# Altium footprint library Custom.PcbLib: 446 footprints (part 10 of 28)
Each footprint in its own frame and in the unit in brackets; x right, y up, seen from the top. Pads: shape width x height; smd on the part's side, far side on the other; paste and mask are expansions set on the pad; w line width, h text height; cw(c..) or ccw(c..) is an arc to the next point about the centre after c.
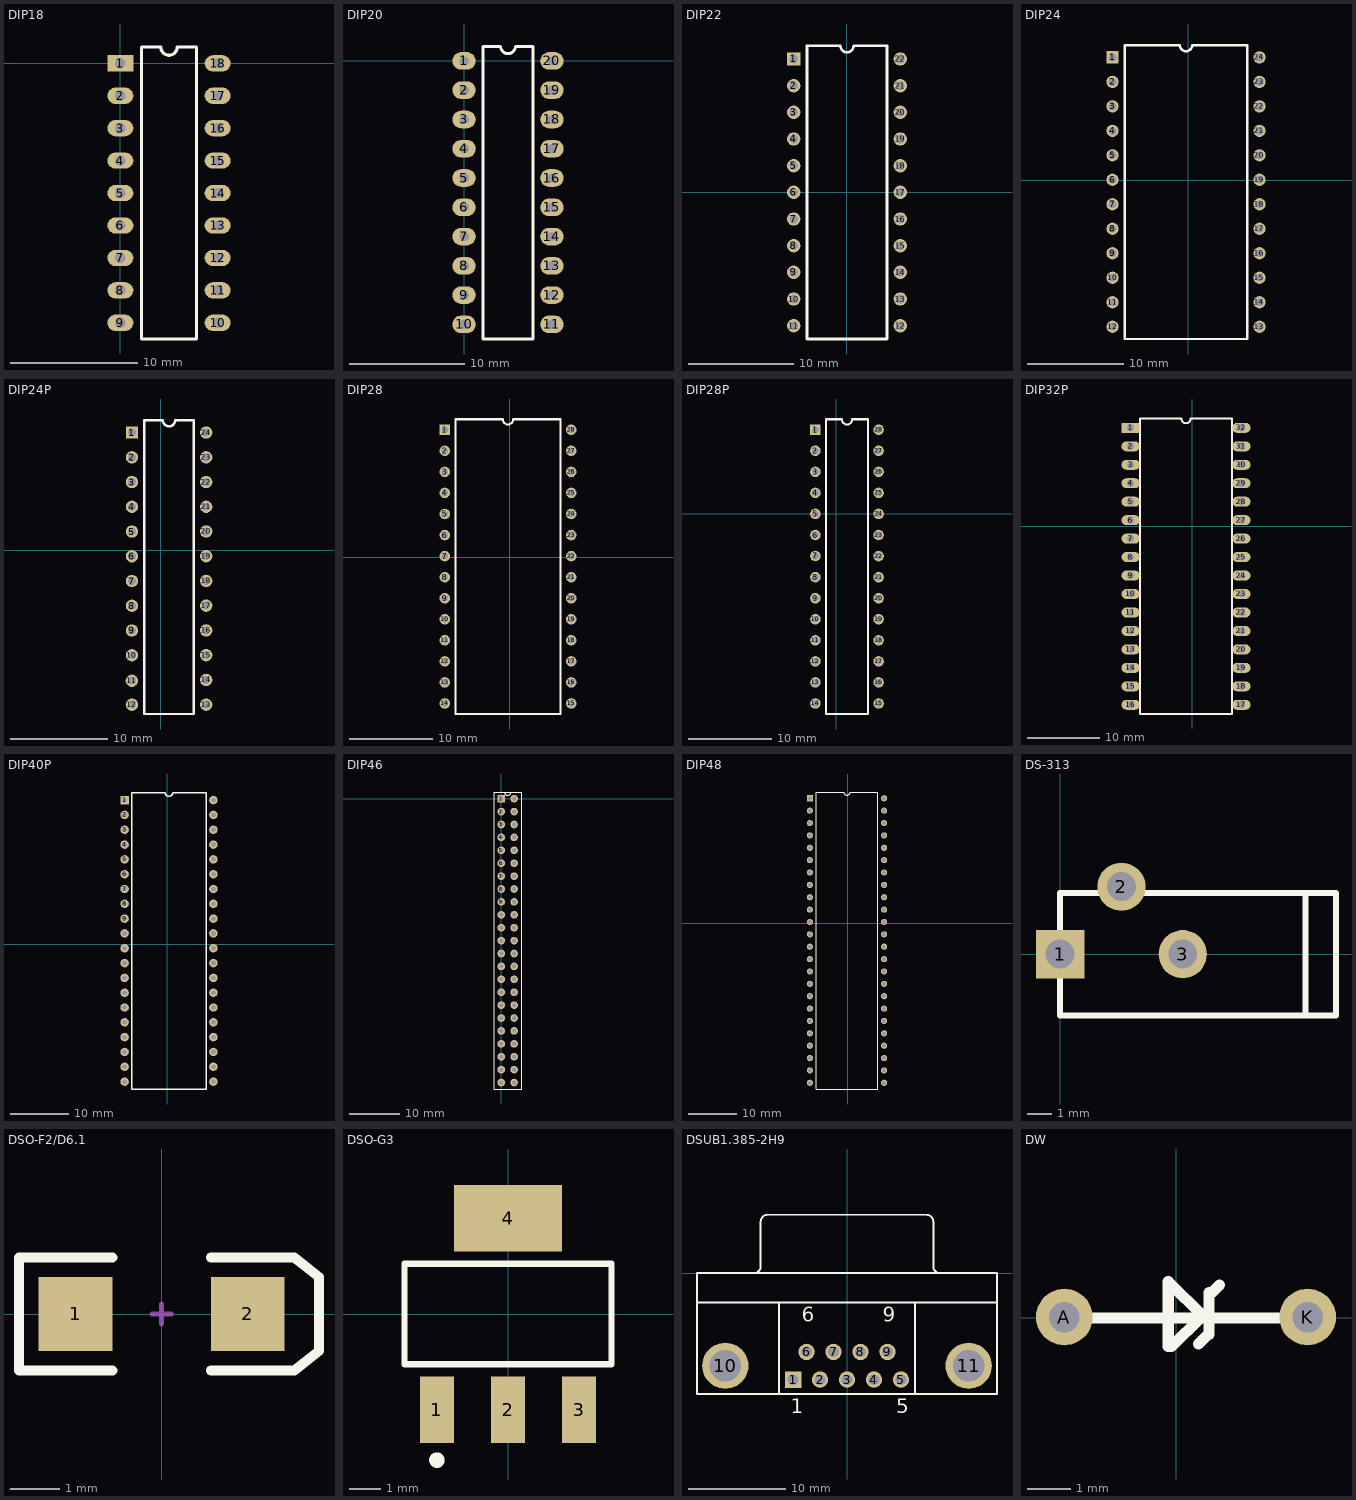
[diagram p9: the footprints below, top view; thin cyan lines are the x and y axes]

## DIP18 [mil]
pads (18):
  rect 80x50 hole 32: 1(0,0)
  oval 80x50 hole 32: 2(0,-100) 3(0,-200) 4(0,-300) 5(0,-400) 6(0,-500) 7(0,-600) 8(0,-700) 9(0,-800) 10(300,-800) 11(300,-700) 12(300,-600) 13(300,-500) 14(300,-400) 15(300,-300) 16(300,-200) 17(300,-100) 18(300,0)
Top Overlay:
  lines w10: 65,-850 65,50 125,50 ccw(c150,50) 175,50 235,50 235,-850 65,-850

## DIP20 [mil]
pads (20):
  oval 80x60 hole 32: 1(0,0) 2(0,-100) 3(0,-200) 4(0,-300) 5(0,-400) 6(0,-500) 7(0,-600) 8(0,-700) 9(0,-800) 10(0,-900) 11(300,-900) 12(300,-800) 13(300,-700) 14(300,-600) 15(300,-500) 16(300,-400) 17(300,-300) 18(300,-200) 19(300,-100) 20(300,0)
Top Overlay:
  lines w10: 65,-950 235,-950 235,50 175,50 cw(c150,50) 125,50 65,50 65,-950

## DIP22 [mil]
pads (22):
  rect 50x50 hole 32: 1(-199.29,499.29)
  round 50 hole 32: 2(-199.29,399.29) 3(-199.29,299.29) 4(-199.29,199.29) 5(-199.29,99.29) 6(-199.29,-0.71) 7(-199.29,-100.71) 8(-199.29,-200.71) 9(-199.29,-300.71) 10(-199.29,-400.71) 11(-199.29,-500.71) 12(200.71,-500.71) 13(200.71,-400.71) 14(200.71,-300.71) 15(200.71,-200.71) 16(200.71,-100.71) 17(200.71,-0.71) 18(200.71,99.29) 19(200.71,199.29) 20(200.71,299.29) 21(200.71,399.29) 22(200.71,499.29)
Top Overlay:
  lines w10: -149.29,-550.71 150.71,-550.71 150.71,549.29 25.71,549.29 cw(c0.71,549.29) -24.29,549.29 -149.29,549.29 -149.29,-550.71

## DIP24 [mil]
pads (24):
  rect 50x50 hole 32: 1(-308.19,501.89)
  round 50 hole 32: 2(-308.19,401.89) 3(-308.19,301.89) 4(-308.19,201.89) 5(-308.19,101.89) 6(-308.19,1.89) 7(-308.19,-98.11) 8(-308.19,-198.11) 9(-308.19,-298.11) 10(-308.19,-398.11) 11(-308.19,-498.11) 12(-308.19,-598.11) 13(291.81,-598.11) 14(291.81,-498.11) 15(291.81,-398.11) 16(291.81,-298.11) 17(291.81,-198.11) 18(291.81,-98.11) 19(291.81,1.89) 20(291.81,101.89) 21(291.81,201.89) 22(291.81,301.89) 23(291.81,401.89) 24(291.81,501.89)
Top Overlay:
  lines w10: -258.19,-648.11 241.81,-648.11 241.81,551.89 16.81,551.89 cw(c-8.19,551.89) -33.19,551.89 -258.19,551.89 -258.19,-648.11

## DIP24P [mil]
pads (24):
  rect 50x50 hole 32: 1(-116.38,475.28)
  round 50 hole 32: 2(-116.38,375.28) 3(-116.38,275.28) 4(-116.38,175.28) 5(-116.38,75.28) 6(-116.38,-24.72) 7(-116.38,-124.72) 8(-116.38,-224.72) 9(-116.38,-324.72) 10(-116.38,-424.72) 11(-116.93,-527.95) 12(-116.54,-624.41) 13(183.46,-624.41) 14(183.46,-524.41) 15(183.46,-424.41) 16(183.46,-324.41) 17(183.46,-224.41) 18(183.46,-124.41) 19(183.46,-24.41) 20(183.46,75.59) 21(183.62,175.28) 22(183.62,275.28) 23(183.62,375.28) 24(183.62,475.28)
Top Overlay:
  lines w10: -66.93,-662.2 133.07,-662.2 ; -66.93,-659.84 -66.38,525.28 8.62,525.28 ccw(c33.62,525.28) 58.62,525.28 133.62,525.28 133.86,-659.84

## DIP28 [mm]
pads (28):
  rect 1.27x1.27 hole 0.813: 1(-7.85,15.36)
  round 1.27 hole 0.813: 2(-7.85,12.82) 3(-7.85,10.28) 4(-7.85,7.74) 5(-7.85,5.2) 6(-7.85,2.66) 7(-7.85,0.12) 8(-7.85,-2.42) 9(-7.85,-4.96) 10(-7.85,-7.5) 11(-7.85,-10.04) 12(-7.85,-12.58) 13(-7.85,-15.12) 14(-7.85,-17.66) 15(7.39,-17.66) 16(7.39,-15.12) 17(7.39,-12.58) 18(7.39,-10.04) 19(7.39,-7.5) 20(7.39,-4.96) 21(7.39,-2.42) 22(7.39,0.12) 23(7.39,2.66) 24(7.39,5.2) 25(7.39,7.74) 26(7.39,10.28) 27(7.39,12.82) 28(7.39,15.36)
Top Overlay:
  lines w0.254: -6.58,-18.93 -6.58,16.63 -0.865,16.63 ccw(c-0.23,16.63) 0.405,16.63 6.12,16.63 6.12,-18.93 -6.58,-18.93

## DIP28P [mil]
pads (28):
  rect 50x50 hole 32: 1(-99.43,399.13)
  round 50 hole 32: 2(-99.43,299.13) 3(-99.43,199.13) 4(-99.43,99.13) 5(-99.43,-0.87) 6(-99.43,-100.87) 7(-99.5,-200.5) 8(-99.5,-301) 9(-99.43,-401.37) 10(-99.43,-501.37) 11(-99.43,-601.37) 12(-99.43,-701.37) 13(-99.43,-801.37) 14(-99.43,-901.37) 15(200.57,-901.37) 16(200.57,-801.37) 17(200.57,-701.37) 18(200.57,-601.37) 19(200.57,-501.37) 20(200.57,-401.37) 21(200.57,-301.37) 22(200.57,-200.87) 23(200.57,-100.87) 24(200.57,-0.87) 25(200.57,99.13) 26(200.57,199.13) 27(200.57,299.13) 28(200.57,399.13)
Top Overlay:
  lines w10: -49.43,-251.37 -49.43,-951.37 150.57,-951.37 150.57,-251.37 ; -49.43,-250.87 -49.43,449.13 25.57,449.13 ccw(c50.57,449.13) 75.57,449.13 150.57,449.13 150.57,-250.87

## DIP32P [mm]
pads (32):
  rect 2.5x1.38 hole 1: 1(-8.458,13.538)
  oval 2.5x1.38 hole 1: 2(-8.458,10.998) 3(-8.458,8.458) 4(-8.458,5.918) 5(-8.458,3.378) 6(-8.458,0.838) 7(-8.458,-1.702) 8(-8.458,-4.242) 9(-8.458,-6.782) 10(-8.458,-9.322) 11(-8.458,-11.862) 12(-8.458,-14.402) 13(-8.458,-16.942) 14(-8.458,-19.482) 15(-8.458,-22.022) 16(-8.458,-24.562) 17(6.782,-24.562) 18(6.782,-22.022) 19(6.782,-19.482) 20(6.782,-16.942) 21(6.782,-14.402) 22(6.782,-11.862) 23(6.782,-9.322) 24(6.782,-6.782) 25(6.782,-4.242) 26(6.782,-1.702) 27(6.782,0.838) 28(6.782,3.378) 29(6.782,5.918) 30(6.782,8.458) 31(6.782,10.998) 32(6.782,13.538)
Top Overlay:
  lines w0.254: -7.188,-25.832 -7.188,14.808 -1.473,14.808 ccw(c-0.838,14.808) -0.203,14.808 5.512,14.808 5.512,-25.832 -7.188,-25.832

## DIP40P [mm]
pads (40):
  rect 1.45x1.45 hole 0.8: 1(-7.295,24.73)
  round 1.45 hole 0.8: 2(-7.295,22.19) 3(-7.295,19.65) 4(-7.295,17.11) 5(-7.295,14.57) 6(-7.295,12.03) 7(-7.295,9.49) 8(-7.295,6.95) 9(-7.295,4.41) 10(-7.295,1.87) 11(-7.295,-0.67) 12(-7.295,-3.21) 13(-7.295,-5.75) 14(-7.295,-8.29) 15(-7.295,-10.83) 16(-7.295,-13.37) 17(-7.295,-15.91) 18(-7.295,-18.45) 19(-7.295,-20.99) 20(-7.295,-23.53) 21(7.945,-23.53) 22(7.945,-20.99) 23(7.945,-18.45) 24(7.945,-15.91) 25(7.945,-13.37) 26(7.945,-10.83) 27(7.945,-8.29) 28(7.945,-5.75) 29(7.945,-3.21) 30(7.945,-0.67) 31(7.945,1.87) 32(7.945,4.41) 33(7.945,6.95) 34(7.945,9.49) 35(7.945,12.03) 36(7.945,14.57) 37(7.945,17.11) 38(7.945,19.65) 39(7.945,22.19) 40(7.945,24.73)
Top Overlay:
  lines w0.254: -6.025,-24.8 -6.025,26 -0.31,26 ccw(c0.325,26) 0.96,26 6.675,26 6.675,-24.8 -6.025,-24.8

## DIP46 [mm]
pads (46):
  rect 1.5x1.5 hole 0.9: 1(0,0)
  round 1.5 hole 0.9: 2(0,-2.54) 3(0,-5.08) 4(0,-7.62) 5(0,-10.16) 6(0,-12.7) 7(0,-15.24) 8(0,-17.78) 9(0,-20.32) 10(0,-22.86) 11(0,-25.4) 12(0,-27.94) 13(0,-30.48) 14(0,-33.02) 15(0,-35.56) 16(0,-38.1) 17(0,-40.64) 18(0,-43.18) 19(0,-45.72) 20(0,-48.26) 21(0,-50.8) 22(0,-53.34) 23(0,-55.88) 24(2.54,-55.88) 25(2.54,-53.34) 26(2.54,-50.8) 27(2.54,-48.26) 28(2.54,-45.72) 29(2.54,-43.18) 30(2.54,-40.64) 31(2.54,-38.1) 32(2.54,-35.56) 33(2.54,-33.02) 34(2.54,-30.48) 35(2.54,-27.94) 36(2.54,-25.4) 37(2.54,-22.86) 38(2.54,-20.32) 39(2.54,-17.78) 40(2.54,-15.24) 41(2.54,-12.7) 42(2.54,-10.16) 43(2.54,-7.62) 44(2.54,-5.08) 45(2.54,-2.54) 46(2.54,0)
Top Overlay:
  lines w0.2: -1.397,-57.15 4.064,-57.15 4.064,-1.209 4.064,1.27 1.585,1.27 0.635,1.27 ccw(c1.27,1.27) 1.905,1.27 0.955,1.27 -1.397,1.27 -1.397,-57.15

## DIP48 [mm]
pads (48):
  rect 1.27x1.27 hole 0.813: 1(-7.81,25.62)
  round 1.27 hole 0.813: 2(-7.81,23.08) 3(-7.81,20.54) 4(-7.81,18) 5(-7.81,15.46) 6(-7.81,12.92) 7(-7.81,10.38) 8(-7.81,7.84) 9(-7.81,5.3) 10(-7.81,2.76) 11(-7.81,0.22) 12(-7.81,-2.32) 13(-7.81,-4.86) 14(-7.81,-7.4) 15(-7.81,-9.94) 16(-7.81,-12.48) 17(-7.81,-15.02) 18(-7.81,-17.56) 19(-7.81,-20.1) 20(-7.81,-22.64) 21(-7.81,-25.18) 22(-7.81,-27.72) 23(-7.81,-30.26) 24(-7.81,-32.8) 25(7.43,-32.8) 26(7.43,-30.26) 27(7.43,-27.72) 28(7.43,-25.18) 29(7.43,-22.64) 30(7.43,-20.1) 31(7.43,-17.56) 32(7.43,-15.02) 33(7.43,-12.48) 34(7.43,-9.94) 35(7.43,-7.4) 36(7.43,-4.86) 37(7.43,-2.32) 38(7.43,0.22) 39(7.43,2.76) 40(7.43,5.3) 41(7.43,7.84) 42(7.43,10.38) 43(7.43,12.92) 44(7.43,15.46) 45(7.43,18) 46(7.43,20.54) 47(7.43,23.08) 48(7.43,25.62)
Top Overlay:
  lines w0.254: -6.54,-34.07 6.16,-34.07 6.16,26.89 0.445,26.89 cw(c-0.19,26.89) -0.825,26.89 -6.54,26.89 -6.54,-34.07

## DS-313 [mm]
pads (3):
  rect 2x2 hole 1.2: 1(0,0)
  round 2 hole 1.2: 2(2.54,2.794) 3(5.08,0)
Top Overlay:
  lines w0.254: 10.16,-2.54 10.16,2.54 ; 0,-2.54 0,2.54 11.43,2.54 11.43,-2.54 0,-2.54

## DSO-F2/D6.1 [mm] "SMT LED; 2 Flat Leads"
pads (2):
  rect 1.5x1.5 smd: 1(-1.75,0) 2(1.75,0)
Top Overlay:
  lines w0.2: -1,-1.15 -2.9,-1.15 -2.9,1.15 -1,1.15 ; 1,-1.15 2.7,-1.15 3.2,-0.75 3.2,0.75 2.7,1.15 1,1.15
Mechanical 1:
  lines w0.1: -0.2,0 0.2,0 ; 0,-0.2 0,0.2

## DSO-G3 [mm] "SOT-223/SC-73; 4 Leads; Body 6.7 x 7.3 mm, inc. leads (LxW max)"
pads (4):
  rect 1.1x2.15 smd: 1(-2.3,-3.1) 2(0,-3.1) 3(2.3,-3.1)
  rect 3.5x2.15 smd: 4(0,3.1)
Top Overlay:
  circle w0.25: c-2.3,-4.725 r0.125
  lines w0.2: -3.35,-1.625 -3.35,1.625 3.35,1.625 3.35,-1.625 -3.35,-1.625

## DSUB1.385-2H9 [mm] "Connector; D Subminiature; 9 Position; Right Angle; Pitch 1.385 mm"
pads (11):
  rect 1.69x1.69 hole 1.09: 1(-5.54,-10.92)
  round 1.69 hole 1.09: 2(-2.77,-10.92) 3(0,-10.92) 4(2.77,-10.92) 5(5.54,-10.92) 6(-4.155,-8.08) 7(-1.385,-8.08) 8(1.385,-8.08) 9(4.155,-8.08)
  round 4.76 hole 3.26: 10(-12.495,-9.5) 11(12.495,-9.5)
Top Overlay:
  lines w0.2: -15.4,-3 15.4,-3 ; -9.56,0.005 ccw(c-9.56,0.7) -8.865,0.7 -8.865,5.3 ; -8.86,5.305 cw(c-8.165,5.305) -8.165,6 8.165,6 cw(c8.165,5.305) 8.86,5.305 ; -7,-12.4 -7,-3 ; 7,-12.4 7,-3 ; 8.865,5.3 8.865,0.7 ccw(c9.56,0.7) 9.56,0.005 ; -15.4,-12.4 15.4,-12.4 15.4,0 -15.4,0 -15.4,-12.4
  text "6" at -4.655,-4.975 h1.5
  text "9" at 3.655,-4.975 h1.5
  text "5" at 5.04,-14.375 h1.5
  text "1" at -5.79,-14.375 h1.5

## DW [mm]
pads (2):
  round 1.3 hole 0.7: A(-2.566,0.02) K(3.022,0.02)
Top Overlay:
  lines w0.254: -2.62,0 3.06,0 ; -0.18,-0.66 -0.12,-0.6 ; -0.18,-0.64 -0.14,-0.58 ; -0.18,-0.6 -0.18,0.84 0.64,0.02 0.64,0 ; -0.1,-0.66 0.58,0.02 ; 0.52,-0.6 0.76,-0.36 ; 0.52,0.08 0.6,0.08 ; 0.76,-0.38 0.76,0.56 ; 0.76,0.58 0.82,0.58 1,0.76